# Altium schematic symbol library Лист1$.SchLib: 1 symbol
Pins are listed as number, name and electrical type; pins without a type are passive.

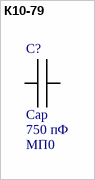
[diagram p0: symbol К10-79]

## К10-79
designator C?, comment Cap  value 750 пФ  TCEgroup: МП0
Part Number: К10-79; Type: Конденсатор; Tolerance: ±20%; Voltage: 16 В; TU: АЖЯР.673511.004 ТУ; BOMformula: Конденсатор К10-79-16 В-750 пФ±20%-МП0АЖЯР.673511.004 ТУ; F14: пФ; F15: 750; Mounting: SMD
pins: 0, 1